# Altium schematic symbol library Optoelectronic.SCHLIB: 32 symbols
Pins are listed as number, name and electrical type; pins without a type are passive.

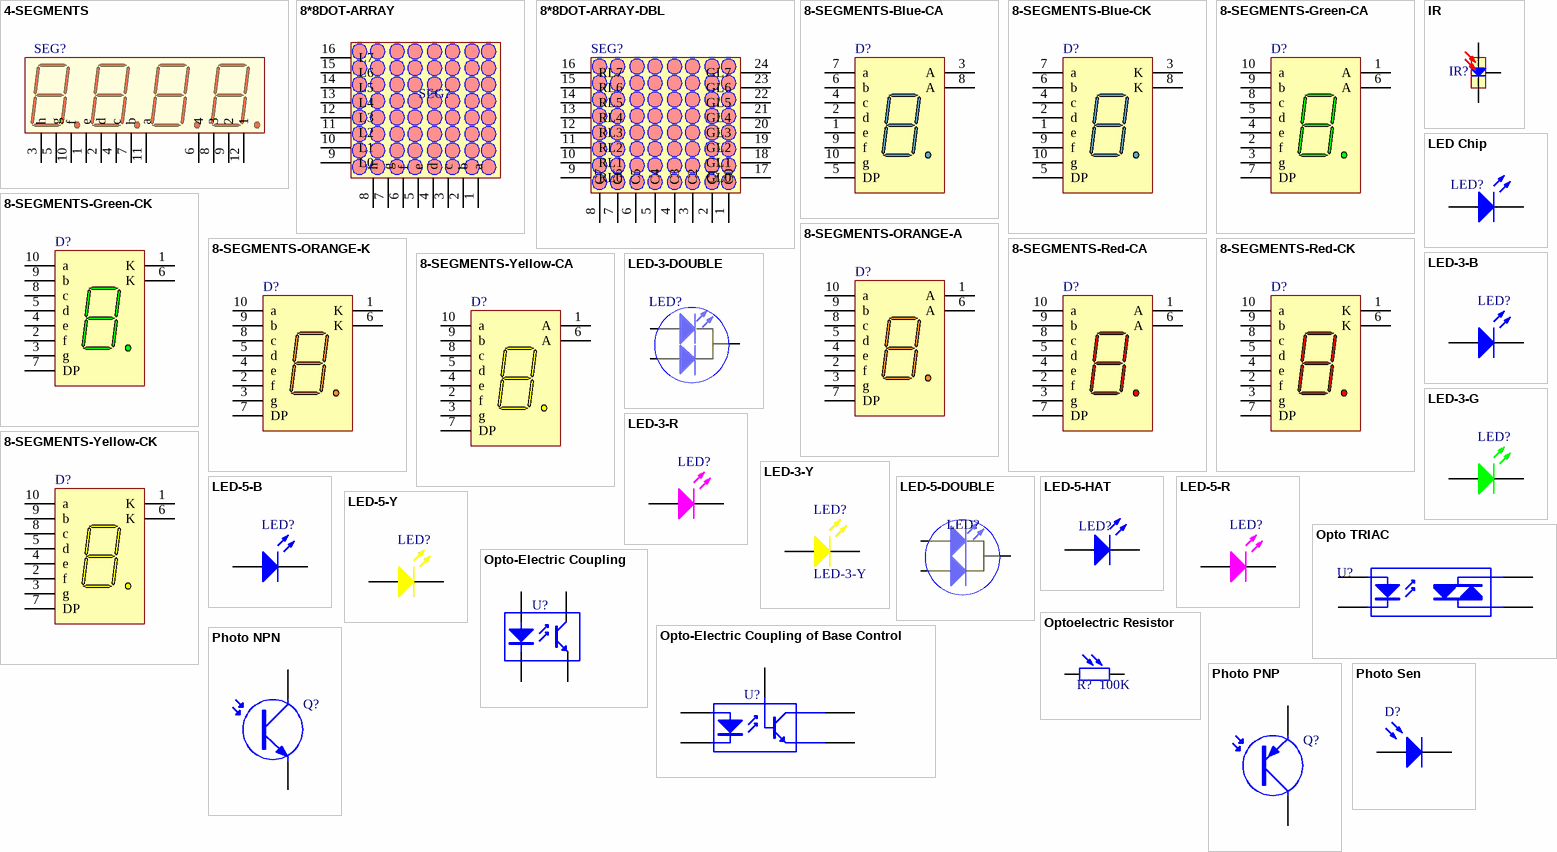
[diagram p0: symbols 4-SEGMENTS to Photo Sen]

## 4-SEGMENTS
designator SEG?, comment R-G-B  (value not drawn)
4-BIT-SEGMENTS
footprint 4-SEGMENTS
pins: 1 e, 2 d, 3 h, 4 c, 5 g, 6 4, 7 b, 8 3, 9 2, 10 f, 11 a, 12 1

## 8*8DOT-ARRAY
designator SEG?  (value not drawn)
Single Color
footprint 8*8DSINGLE-COLOR
pins: 1 a, 2 b, 3 c, 4 d, 5 e, 6 f, 7 g, 8 h, 9 L0, 10 L1, 11 L2, 12 L3, 13 L4, 14 L5, 15 L6, 16 L7

## 8*8DOT-ARRAY-DBL
designator SEG?  (value not drawn)
Double Color
footprint 8*8DOUBLE-COLOR
pins: 1 C0, 2 C1, 3 C2, 4 C3, 5 C4, 6 C5, 7 C6, 8 C7, 9 RL0, 10 RL1, 11 RL2, 12 RL3, 13 RL4, 14 RL5, 15 RL6, 16 RL7, 17 GL0, 18 GL1, 19 GL2, 20 GL3, 21 GL4, 22 GL5, 23 GL6, 24 GL7

## 8-SEGMENTS-Blue-CA
designator D?  (value not drawn)
14.2 mm General Purpose Blue 7-Segment Display: CA, RH DP, Gray Surface; Package Information: Latest Revision: 24-Sep-2002; Min. Intensity: 2020 ucd; Note: IF = 10 mA; Note: Pins 3 and 8 are redundant Anodes.; Datasheet: Latest Revision: 24-Sep-2002; Package Reference: H; Publisher: Altium Limited; Colour: Blue
footprint LEDDIP-10/C15.24
pins: 1 e "Cathode", 2 d "Cathode", 3 A "Common Anode", 4 c "Cathode", 5 DP "Cathode", 6 b "Cathode", 7 a "Cathode", 8 A "Common Anode", 9 f "Cathode", 10 g "Cathode"

## 8-SEGMENTS-Blue-CK
designator D?
14.2 mm General Purpose Blue 7-Segment Display: CC, RH DP, Gray Surface; Package Information: Latest Revision: 24-Sep-2002; Min. Intensity: 2020 ucd; Note: IF = 10 mA; Note: Pins 3 and 8 are redundant Cathodes.; Datasheet: Latest Revision: 24-Sep-2002; Package Reference: H; Publisher: Altium Limited; Colour: Blue
footprint LEDDIP-10/C15.24
pins: 1 e "Anode", 2 d "Anode", 3 K "Common Cathode", 4 c "Anode", 5 DP "Anode", 6 b "Anode", 7 a "Anode", 8 K "Common Cathode", 9 f "Anode", 10 g "Anode"

## 8-SEGMENTS-Green-CA
designator D?
7.6 mm Black Surface 7-Segment Display: CA, RH DP; Package Information: Latest Revision: 19-Feb-2002; Min. Intensity: 860 ucd; Note: IF = 10 mA; Colour: Green; Note: Pins 1 and 6 are redundant Anodes.; Datasheet: Latest Revision: 19-Feb-2002; Package Reference: A; Publisher: Altium Limited
footprint LEDDIP-10/C5.08
pins: 1 A "Anode", 2 f "Cathode", 3 g "Cathode", 4 e "Cathode", 5 d "Cathode", 6 A "Anode", 7 DP "Cathode", 8 c "Cathode", 9 b "Cathode", 10 a "Cathode"

## 8-SEGMENTS-Green-CK
designator D?
7.6 mm Black Surface 7-Segment Display: CC, RH DP; Package Information: Latest Revision: 19-Feb-2002; Min. Intensity: 860 ucd; Note: IF = 10 mA; Colour: Green; Note: Pins 1 and 6 are redundant Cathodes.; Datasheet: Latest Revision: 19-Feb-2002; Package Reference: A; Publisher: Altium Limited
footprint LEDDIP-10/C5.08
pins: 1 K "Cathode", 2 f "Anode", 3 g "Anode", 4 e "Anode", 5 d "Anode", 6 K "Cathode", 7 DP "Anode", 8 c "Anode", 9 b "Anode", 10 a "Anode"

## 8-SEGMENTS-ORANGE-A
designator D?
7.6 mm Black Surface 7-Segment Display: CA, RH DP; Package Information: Latest Revision: 19-Feb-2002; Min. Intensity: 354 ucd; Note: IF = 5 mA; Colour: Orange; Note: Pins 1 and 6 are redundant Anodes.; Datasheet: Latest Revision: 19-Feb-2002; Package Reference: A; Publisher: Altium Limited
footprint A (LED, 7-Segment Display; 10 Pins; Row Space 5.08 mm; Pitch 2.54 mm)
pins: 1 A "Anode", 2 f "Cathode", 3 g "Cathode", 4 e "Cathode", 5 d "Cathode", 6 A "Anode", 7 DP "Cathode", 8 c "Cathode", 9 b "Cathode", 10 a "Cathode"

## 8-SEGMENTS-ORANGE-K
designator D?
7.6 mm Black Surface 7-Segment Display: CC, RH DP; Package Information: Latest Revision: 19-Feb-2002; Min. Intensity: 354 ucd; Note: IF = 5 mA; Colour: Orange; Note: Pins 1 and 6 are redundant Cathodes.; Datasheet: Latest Revision: 19-Feb-2002; Package Reference: A; Publisher: Altium Limited
footprint LEDDIP-10/C5.08
pins: 1 K "Cathode", 2 f "Anode", 3 g "Anode", 4 e "Anode", 5 d "Anode", 6 K "Cathode", 7 DP "Anode", 8 c "Anode", 9 b "Anode", 10 a "Anode"

## 8-SEGMENTS-Red-CA
designator D?
7.6 mm Black Surface 7-Segment Display: CA, RH DP; Package Information: Latest Revision: 19-Feb-2002; Min. Intensity: 360 ucd; Note: IF = 5 mA; Colour: HE Red; Note: Pins 1 and 6 are redundant Anodes.; Datasheet: Latest Revision: 19-Feb-2002; Package Reference: A; Publisher: Altium Limited
footprint LEDDIP-10/C5.08
pins: 1 A "Anode", 2 f "Cathode", 3 g "Cathode", 4 e "Cathode", 5 d "Cathode", 6 A "Anode", 7 DP "Cathode", 8 c "Cathode", 9 b "Cathode", 10 a "Cathode"

## 8-SEGMENTS-Red-CK
designator D?
7.6 mm Black Surface 7-Segment Display: CC, RH DP; Package Information: Latest Revision: 19-Feb-2002; Min. Intensity: 360 ucd; Note: IF = 5 mA; Colour: HE Red; Note: Pins 1 and 6 are redundant Cathodes.; Datasheet: Latest Revision: 19-Feb-2002; Package Reference: A; Publisher: Altium Limited
footprint LEDDIP-10/C5.08
pins: 1 K "Cathode", 2 f "Anode", 3 g "Anode", 4 e "Anode", 5 d "Anode", 6 K "Cathode", 7 DP "Anode", 8 c "Anode", 9 b "Anode", 10 a "Anode"

## 8-SEGMENTS-Yellow-CA
designator D?
7.6 mm Micro Bright 7-Segment Display: CA, RH DP; Package Information: Latest Revision: 19-Feb-2002; Min. Intensity: 225 ucd; Note: IF = 5 mA; Colour: Yellow; Note: Pins 1 and 6 are redundant Anodes.; Datasheet: Latest Revision: 11-Feb-2002; Package Reference: A; Publisher: Altium Limited
footprint LEDDIP-10/C5.08
pins: 1 A "Anode", 2 f "Cathode", 3 g "Cathode", 4 e "Cathode", 5 d "Cathode", 6 A "Anode", 7 DP "Cathode", 8 c "Cathode", 9 b "Cathode", 10 a "Cathode"

## 8-SEGMENTS-Yellow-CK
designator D?
7.6 mm Micro Bright 7-Segment Display: CC, RH DP; Package Information: Latest Revision: 19-Feb-2002; Min. Intensity: 225 ucd; Note: IF = 5 mA; Colour: Yellow; Note: Pins 1 and 6 are redundant Cathodes.; Datasheet: Latest Revision: 11-Feb-2002; Package Reference: A; Publisher: Altium Limited
footprint LEDDIP-10/C5.08
pins: 1 K "Cathode", 2 f "Anode", 3 g "Anode", 4 e "Anode", 5 d "Anode", 6 K "Cathode", 7 DP "Anode", 8 c "Anode", 9 b "Anode", 10 a "Anode"

## IR
designator IR?  (value not drawn)
RED Remote Receiver
footprint IR (IR RECEVIER)
pins: GND 1, OUT 2, VCC 0

## LED Chip
designator LED?
Typical Chip LED; Published: 8-Jun-2000; Revision: July-2002: Re-released for DXP Platform.; Publisher: Altium Limited
footprint CLED1005-0402
footprint CLED1608-0603
footprint CLED2012-0805
footprint CLED3216-1206
pins: 1 A, 2 K

## LED-3-B
designator LED?  (value not drawn)
Typical INFRARED GaAs LED; Published: 8-Jun-2000; Revision: July-2002: Re-released for DXP Platform.; Publisher: Altium Limited
3D model LED3_BLUE (PCB3D Model)
footprint LED-R3-H5-SINGLE-B
pins: 1 A, 2 K

## LED-3-DOUBLE
designator LED?  (value not drawn)
Typical INFRARED GaAs LED; Published: 8-Jun-2000; Revision: July-2002: Re-released for DXP Platform.; Publisher: Altium Limited
footprint LED-R3-H5-DOUBLE
3D model LED5_GRE (PCB3D Model)
pins: 1 K, 2 A, 3 A

## LED-3-G
designator LED?  (value not drawn)
Typical INFRARED GaAs LED; Published: 8-Jun-2000; Revision: July-2002: Re-released for DXP Platform.; Publisher: Altium Limited
3D model LED3_GREEN (PCB3D Model)
footprint LED-R3-H5-SINGLE-G
pins: 1 A, 2 K

## LED-3-R
designator LED?  (value not drawn)
Typical INFRARED GaAs LED; Published: 8-Jun-2000; Revision: July-2002: Re-released for DXP Platform.; Publisher: Altium Limited
3D model LED3_RED (PCB3D Model)
footprint LED-R3-H5-SINGLE-R
pins: 1 A, 2 K

## LED-3-Y
designator LED?
Typical INFRARED GaAs LED; Published: 8-Jun-2000; Revision: July-2002: Re-released for DXP Platform.; Publisher: Altium Limited
3D model LED3_YEL (PCB3D Model)
footprint LED-R3-H5-SINGLE-Y
pins: 1 A, 2 K

## LED-5-B
designator LED?  (value not drawn)
Typical INFRARED GaAs LED; Published: 8-Jun-2000; Revision: July-2002: Re-released for DXP Platform.; Publisher: Altium Limited
footprint LED-R5-H9-SINGLE-B
3D model LED5_BLUE (PCB3D Model)
pins: 1 A, 2 K

## LED-5-DOUBLE
designator LED?  (value not drawn)
footprint LED-R3-H5-DOUBLE
footprint LED-R5-H9-DOUBLE
pins: 1 K, 2 A, 3 A

## LED-5-HAT
designator LED?  (value not drawn)
Typical INFRARED GaAs LED; Published: 8-Jun-2000; Revision: July-2002: Re-released for DXP Platform.; Publisher: Altium Limited
footprint LED-R5-H5-HAT
pins: 1 A, 2 K

## LED-5-R
designator LED?  (value not drawn)
Typical INFRARED GaAs LED; Published: 8-Jun-2000; Revision: July-2002: Re-released for DXP Platform.; Publisher: Altium Limited
footprint LED-R5-H9-SINGLE-R
3D model LED5_RED (PCB3D Model)
pins: 1 A, 2 K

## LED-5-Y
designator LED?  (value not drawn)
Typical INFRARED GaAs LED; Published: 8-Jun-2000; Revision: July-2002: Re-released for DXP Platform.; Publisher: Altium Limited
footprint LED-R5-H9-SINGLE-Y
3D model LED5_YEL (PCB3D Model)
pins: 1 A, 2 K

## Opto TRIAC
designator U?
Opto-Triac; Published: 24-Mar-1999; Revision: July-2002: Re-released for DXP Platform.; Publisher: Altium Limited
footprint SIP-P4/A7.5 (SIP; 4 Leads; Body 10 x 11.5 x 7.5 mm (typ); Pitch 2.54 mm)
pins: 1 A, 2 K, 3 A/K, 4 A/K

## Opto-Electric Coupling
designator U?  (value not drawn)
Optoisolator; Published: 24-Mar-1999; Revision: July-2002: Re-released for DXP Platform.; Publisher: Altium Limited
footprint DIP-4 (DIP; 4 Leads; Row Spacing 7.62 mm; Pitch 2.54 mm)
3D model SOIC-4 (PCB3D Model)
pins: 1 A, 2 K, 3 C, 4 E

## Opto-Electric Coupling of Base Control
designator U?  (value not drawn)
Optoisolator; Published: 24-Mar-1999; Revision: July-2002: Re-released for DXP Platform.; Publisher: Altium Limited
footprint SO-G5/P.95 (SOT-23/SC-74A; 5 Leads; Body 3.1 x 3 mm, inc. leads (LxW max))
pins: 1 A, 2 K, 3 B, 4 C, 5 E

## Optoelectric Resistor
designator R?  value 100K  (hidden comment: *)
footprint RES-OPTO
pins: 1, 2

## Photo NPN
designator Q?
NPN Phototransistor; Code - JEDEC: TO-220-AC; Published: 24-Mar-1999; Revision: July-2002: Re-released for DXP Platform.; Publisher: Altium Limited
footprint SFM-T2(3)/X1.6V (TO, Thru-Hole, Vertical, Heatsink Mounted; 3 In-Line Leads (1 Absent); Pitch 2.54 mm)
pins: 1 C, 3 E

## Photo PNP
designator Q?
PNP Phototransistor; Code - JEDEC: TO-220-AC; Published: 24-Mar-1999; Revision: July-2002: Re-released for DXP Platform.; Publisher: Altium Limited
footprint SFM-T2(3)/X1.6V (TO, Thru-Hole, Vertical, Heatsink Mounted; 3 In-Line Leads (1 Absent); Pitch 2.54 mm)
pins: 1 C, 3 E

## Photo Sen
designator D?
Photosensitive Diode; Published: 24-Mar-1999; Revision: July-2002: Re-released for DXP Platform.; Publisher: Altium Limited
footprint CAPPR2-5X5
pins: 1 A, 2 K